# EAGLE library part LTC3428EDDPBF (library U-Linear-LTC3428-SPS-boost-adj)
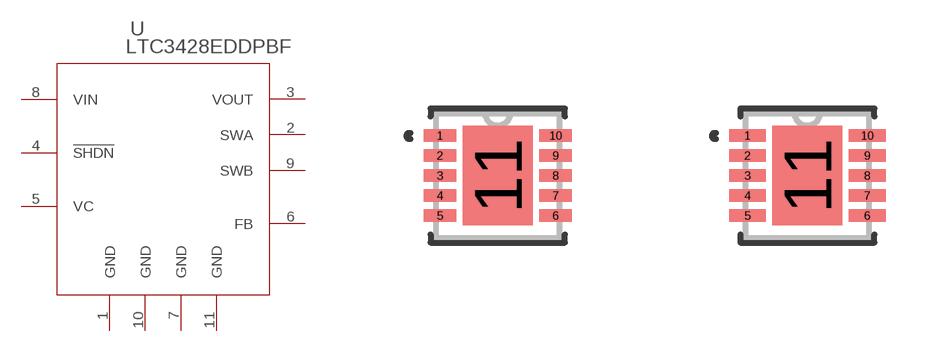
[diagram p0: symbol with the pads of DFN-10_DD; footprints DFN-10_DD, DFN-10_DD-M]

Designator prefix U

## LTC3428EDDPBF (MFR: Linear Technology; MPN: LTC3428EDD#PBF)  [DFN-10_DD]
1  GND  pwr
2  SWA  pas
3  VOUT  out
4  !SHDN  pas
5  VC  out
6  FB  pas
7  GND  pwr
8  VIN  in
9  SWB  pas
10  GND  pwr
11  GND  pas

## LTC3428EDDPBFDFN-10_DD-M (MANUFACTURER_PART_NUMBER: LTC3428EDD#PBF; VENDOR: Linear Technology)  [DFN-10_DD-M]
Pads as for DFN-10_DD

## LTC3428EDDPBFDFN-10_DD-L (MANUFACTURER_PART_NUMBER: LTC3428EDD#PBF; VENDOR: Linear Technology)  [DFN-10_DD-L]
Pads as for DFN-10_DD

## Footprint DFN-10_DD (pad centres in mm)
smd 0.813 x 0.305: 1 -1.448,1; 2 -1.448,0.5; 3 -1.448,0; 4 -1.448,-0.5; 5 -1.448,-1; 6 1.448,-1; 7 1.448,-0.5; 8 1.448,0; 9 1.448,0.5; 10 1.448,1
smd 1.753 x 2.489: 11 0,0

## Footprint DFN-10_DD-M (pad centres in mm)
smd 0.914 x 0.305: 1 -1.499,1; 2 -1.499,0.5; 3 -1.499,0; 4 -1.499,-0.5; 5 -1.499,-1; 6 1.499,-1; 7 1.499,-0.5; 8 1.499,0; 9 1.499,0.5; 10 1.499,1
smd 1.753 x 2.489: 11 0,0

## Footprint DFN-10_DD-L (pad centres in mm)
smd 0.711 x 0.305: 1 -1.397,1; 2 -1.397,0.5; 3 -1.397,0; 4 -1.397,-0.5; 5 -1.397,-1; 6 1.397,-1; 7 1.397,-0.5; 8 1.397,0; 9 1.397,0.5; 10 1.397,1
smd 1.753 x 2.489: 11 0,0